# EAGLE library part N50P111 (library ashield)
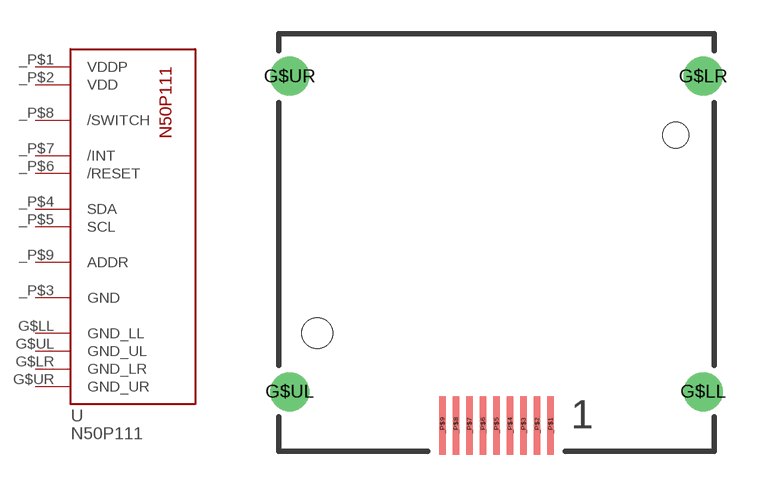
[diagram p0: symbol with the pads of N50P111; footprint N50P111]

Designator prefix -

## N50P111  [N50P111]
_P$1  VDDP  pwr
_P$2  VDD  pwr
_P$3  GND  pwr
_P$4  SDA  in
_P$5  SCL
_P$6  /RESET  out
_P$7  /INT  out
_P$8  /SWITCH  out
_P$9  ADDR  in
G$LL  GND_LL  pwr
G$LR  GND_LR  pwr
G$UL  GND_UL  pwr
G$UR  GND_UR  pwr

## Footprint N50P111 (pad centres in mm)
smd 0.3 x 2.6: _P$1 2.4,-8.5; _P$2 1.8,-8.5; _P$3 1.2,-8.5; _P$4 0.6,-8.5; _P$5 0,-8.5; _P$6 -0.6,-8.5; _P$7 -1.2,-8.5; _P$8 -1.8,-8.5; _P$9 -2.4,-8.5
drill 1.15 round: G$LL 9.17,-7; G$LR 9.17,7; G$UL -9.17,-7; G$UR -9.17,7
hole 1.15 at 7.95,4.4
hole 1.35 at -7.95,-4.4